# Altium integrated library Linear Technology Power Management Switching Regulator LTC1174-LTC3901.IntLib: 2647 symbols (part 249 of 364)
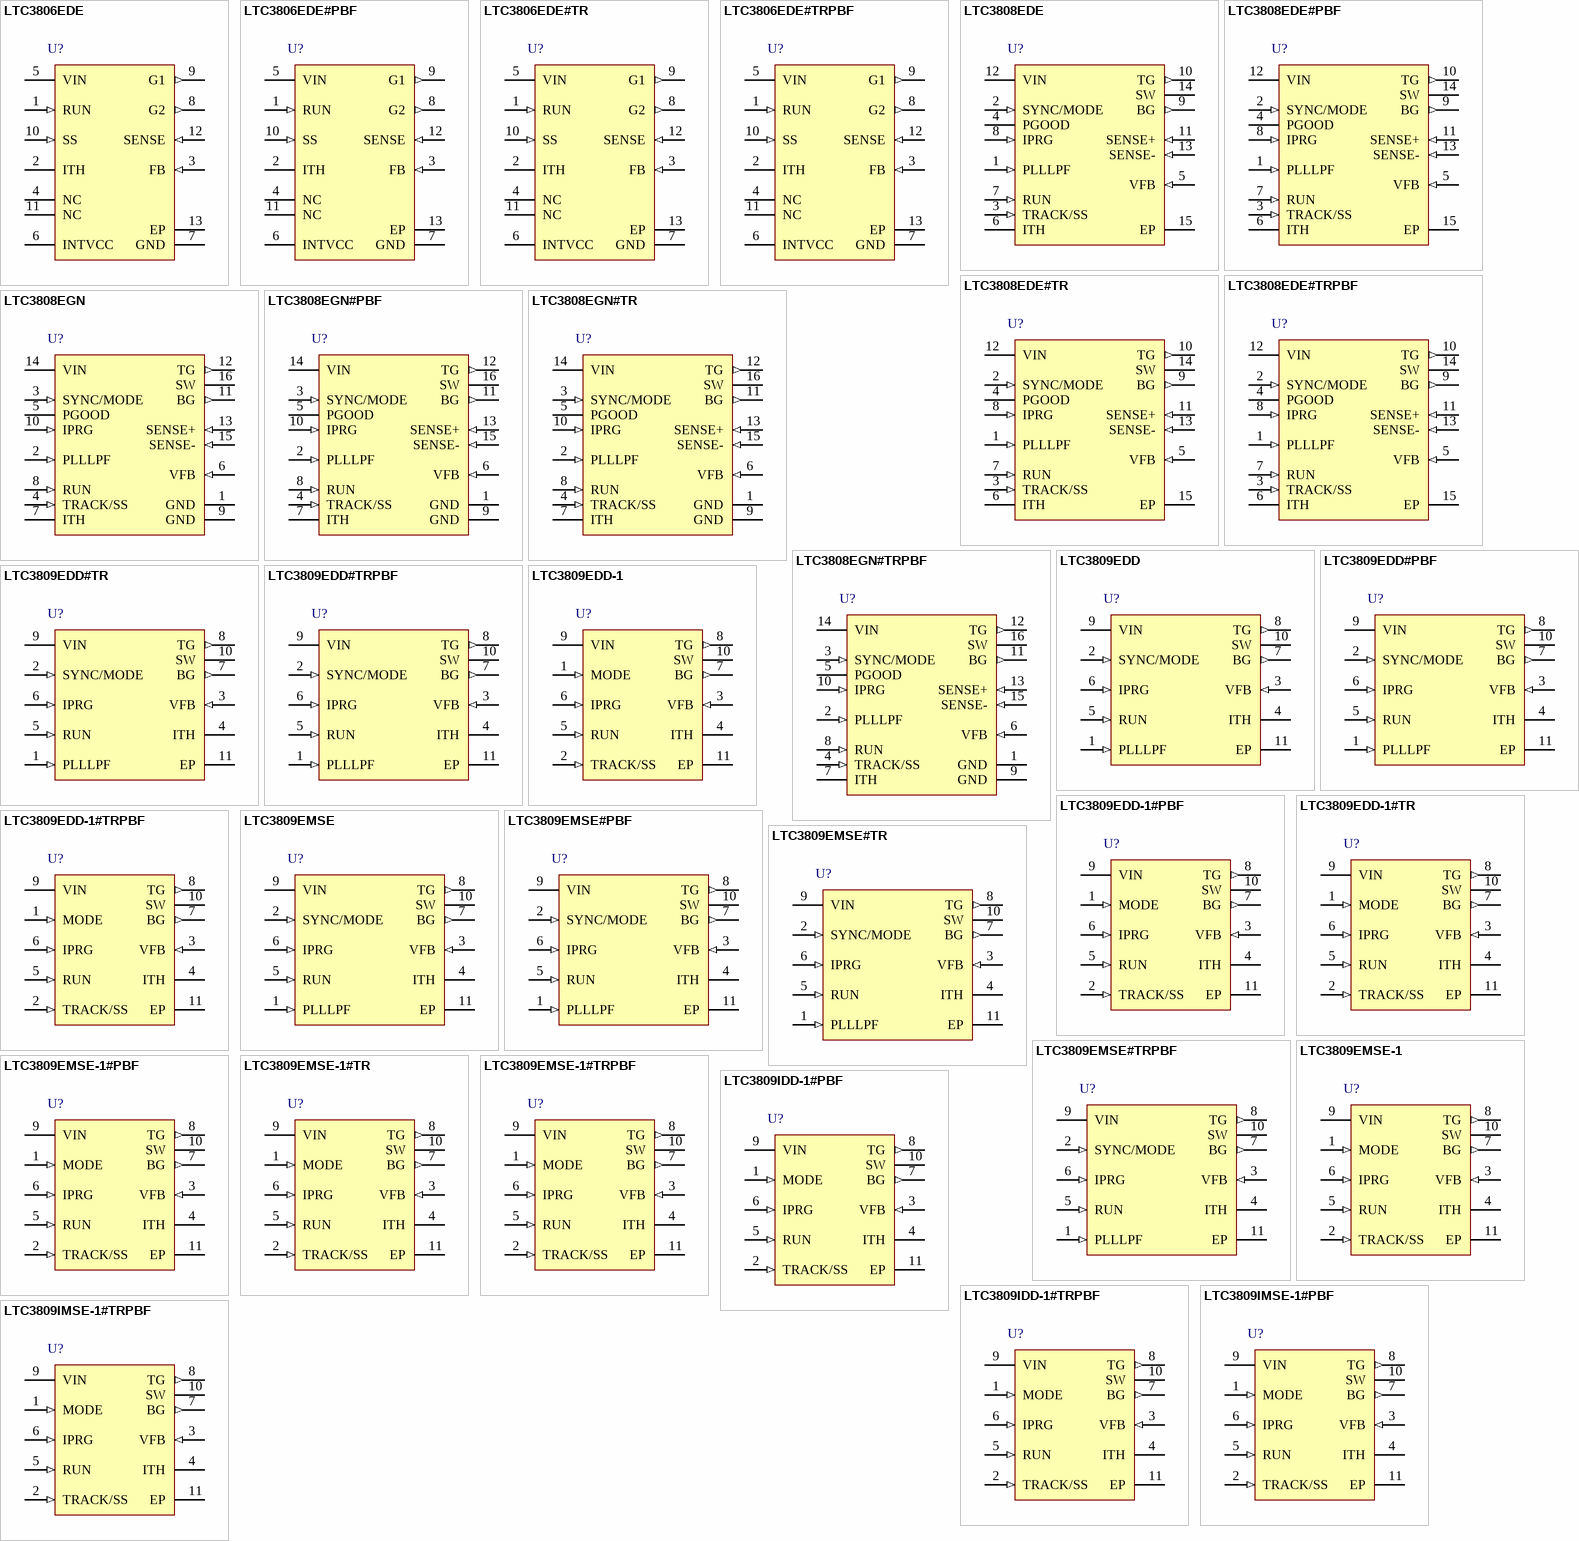
[diagram p343: symbols LTC3806EDE to LTC3809IMSE-1#TRPBF]

## LTC3808EDE
designator U?
No Rsense, Low EMI, Synchronous DC/DC Controller with Output Tracking, 14-pin SON (DE-14), -40 to 85 degC; Manufacturer: Linear Technology; PartNumber: LTC3808EDE; Frequency Sync Range: 250kHz - 750kHz; Number of Outputs: 1; PackageVersion: Rev. B, 06/2010; PackageReference: DE-14; PackageDescription: 14-Pin Plastic DFN, Body 4 x 3 mm, Pitch 0.5 mm; RoHS: FALSE; Mounting Technology: Surface Mount; Code_JEDEC: MO-229; ComponentLink1Description: Manufacturer URL; ComponentLink1URL: http://www.linear.com/; ComponentLink2Description: Datasheet; ComponentLink2URL: http://cds.linear.com/docs/en/datasheet/3808f.pdf; ComponentLink3Description: Package Specification; ComponentLink3URL: http://www.linear.com/docs/en/packaging/DFN_14_05-08-1708.pdf
footprint LT-DE-14_V (SON, 14-Leads, Body 4x3mm, Pitch 0.5mm, Thermal Pad 3.3x1.7mm)
pins: 1 PLLLPF (in) "Frequency Set/PLL Lowpass Filter. When synchronizing to an external clock, this pin serves as the low pass filter point for the phase-locked loop. Normally, a series RC is connected between this pin and ground.", 2 SYNC/MODE (in) "This pin performs four functions: 1) auxiliary winding feedback input, 2) external clock synchronization input for phase-locked loop, 3) Burst Mode, pulse skipping or forced continuous mode select, and 4) enable spread (See Datasheet)", 3 TRACK/SS (in) "Tracking Input for the Controller or Optional External Soft-Start Input. This pin allows the start-up of VOUT to “track” the external voltage at this pin using an external resistor divider. Tying this pin to VIN all(See Datasheet)", 4 PGOOD (oc) "Power Good Output Voltage Monitor Open-Drain Logic Output. This pin is pulled to ground when the voltage on the feedback pin VFB is not within +/-13.3% of its nominal set point.", 5 VFB (in) "Feedback Pin. This pin receives the remotely sensed feedback voltage for the controller from an external resistor divider across the output.", 6 ITH "Current Threshold and Error Amplifier Compensation Point. Nominal operating range on this pin is from 0.7V to 2V. The voltage on this pin determines the threshold of the main current comparator.", 7 RUN (in) "Run Control Input. Forcing this pin below 1.1V shuts down the chip. Driving this pin to VIN or releasing this pin enables the chip to start-up either by tracking the external voltage at the TRACK/SS pin or with the (See Datasheet)", 8 IPRG (in) "Three-State Pin to Select Maximum Peak Sense Voltage Threshold. This pin selects the maximum allowed voltage drop between the SENSE+ and SENSE- or SW pins (i.e., the maximum allowed drop across the sense resistor or the (See Datasheet)", 9 BG (out) "Bottom (NMOS) Gate Drive Output. This pin drives the gate of the external N-channel MOSFET. This pin has an output swing from GND to SENSE+.", 10 TG (out) "Top (PMOS) Gate Drive Output. This pin drives the gate of the external P-channel MOSFET. This pin has an output swing from GND to SENSE+.", 11 SENSE+ (in) "Positive Input to Differential Current Comparator. Also powers the gate drivers. Normally connected to the source of the external P-channel MOSFET when the sense resistor is not used. Otherwise, it is connected to the sense (See Datasheet)", 12 VIN (power) "Chip Signal Power Supply. This pin powers the entire chip except for the gate drivers. Externally filtering this pin with a lowpass RC network (e.g., R = 10ohm, C = 1uF) is suggested to minimize noise pickup, especially in (See Datasheet)", 13 SENSE- (in) "Negative Input to Differential Current Comparator. Normally is connected to the SW pin when the sense resistor is not used. When using a current sense resistor, connect the resistor between SENSE+ and SENSE- and connect the (See Datasheet)", 14 SW "Switch Node Connection to Inductor. This pin is also an input to the reverse current comparator", 15 EP (power) "The exposed pad (Pin 15 in DFN package) must be soldered to the PCB ground."

## LTC3808EDE#PBF
designator U?
No Rsense, Low EMI, Synchronous DC/DC Controller with Output Tracking, 14-pin SON (DE-14), -40 to 85 degC, Pb-Free; Manufacturer: Linear Technology; PartNumber: LTC3808EDE#PBF; Frequency Sync Range: 250kHz - 750kHz; Number of Outputs: 1; PackageVersion: Rev. B, 06/2010; PackageReference: DE-14; PackageDescription: 14-Pin Plastic DFN, Body 4 x 3 mm, Pitch 0.5 mm; Supplier 1: Digi-Key; Supplier Part Number 1: LTC3808EDE#PBF-ND; RoHS: TRUE; Mounting Technology: Surface Mount; Code_JEDEC: MO-229; ComponentLink1Description: Manufacturer URL; ComponentLink1URL: http://www.linear.com/; ComponentLink2Description: Datasheet; ComponentLink2URL: http://cds.linear.com/docs/en/datasheet/3808f.pdf; ComponentLink3Description: Package Specification; ComponentLink3URL: http://www.linear.com/docs/en/packaging/DFN_14_05-08-1708.pdf
footprint LT-DE-14_V (SON, 14-Leads, Body 4x3mm, Pitch 0.5mm, Thermal Pad 3.3x1.7mm)
pins: 1 PLLLPF (in) "Frequency Set/PLL Lowpass Filter. When synchronizing to an external clock, this pin serves as the low pass filter point for the phase-locked loop. Normally, a series RC is connected between this pin and ground.", 2 SYNC/MODE (in) "This pin performs four functions: 1) auxiliary winding feedback input, 2) external clock synchronization input for phase-locked loop, 3) Burst Mode, pulse skipping or forced continuous mode select, and 4) enable spread (See Datasheet)", 3 TRACK/SS (in) "Tracking Input for the Controller or Optional External Soft-Start Input. This pin allows the start-up of VOUT to “track” the external voltage at this pin using an external resistor divider. Tying this pin to VIN all(See Datasheet)", 4 PGOOD (oc) "Power Good Output Voltage Monitor Open-Drain Logic Output. This pin is pulled to ground when the voltage on the feedback pin VFB is not within +/-13.3% of its nominal set point.", 5 VFB (in) "Feedback Pin. This pin receives the remotely sensed feedback voltage for the controller from an external resistor divider across the output.", 6 ITH "Current Threshold and Error Amplifier Compensation Point. Nominal operating range on this pin is from 0.7V to 2V. The voltage on this pin determines the threshold of the main current comparator.", 7 RUN (in) "Run Control Input. Forcing this pin below 1.1V shuts down the chip. Driving this pin to VIN or releasing this pin enables the chip to start-up either by tracking the external voltage at the TRACK/SS pin or with the (See Datasheet)", 8 IPRG (in) "Three-State Pin to Select Maximum Peak Sense Voltage Threshold. This pin selects the maximum allowed voltage drop between the SENSE+ and SENSE- or SW pins (i.e., the maximum allowed drop across the sense resistor or the (See Datasheet)", 9 BG (out) "Bottom (NMOS) Gate Drive Output. This pin drives the gate of the external N-channel MOSFET. This pin has an output swing from GND to SENSE+.", 10 TG (out) "Top (PMOS) Gate Drive Output. This pin drives the gate of the external P-channel MOSFET. This pin has an output swing from GND to SENSE+.", 11 SENSE+ (in) "Positive Input to Differential Current Comparator. Also powers the gate drivers. Normally connected to the source of the external P-channel MOSFET when the sense resistor is not used. Otherwise, it is connected to the sense (See Datasheet)", 12 VIN (power) "Chip Signal Power Supply. This pin powers the entire chip except for the gate drivers. Externally filtering this pin with a lowpass RC network (e.g., R = 10ohm, C = 1uF) is suggested to minimize noise pickup, especially in (See Datasheet)", 13 SENSE- (in) "Negative Input to Differential Current Comparator. Normally is connected to the SW pin when the sense resistor is not used. When using a current sense resistor, connect the resistor between SENSE+ and SENSE- and connect the (See Datasheet)", 14 SW "Switch Node Connection to Inductor. This pin is also an input to the reverse current comparator", 15 EP (power) "The exposed pad (Pin 15 in DFN package) must be soldered to the PCB ground."

## LTC3808EDE#TR
designator U?
No Rsense, Low EMI, Synchronous DC/DC Controller with Output Tracking, 14-pin SON (DE-14), -40 to 85 degC, Tape and Reel; Manufacturer: Linear Technology; PartNumber: LTC3808EDE#TR; Frequency Sync Range: 250kHz - 750kHz; Number of Outputs: 1; PackageVersion: Rev. B, 06/2010; PackageReference: DE-14; PackageDescription: 14-Pin Plastic DFN, Body 4 x 3 mm, Pitch 0.5 mm; Packing: Tape and Reel; RoHS: FALSE; Mounting Technology: Surface Mount; Code_JEDEC: MO-229; ComponentLink1Description: Manufacturer URL; ComponentLink1URL: http://www.linear.com/; ComponentLink2Description: Datasheet; ComponentLink2URL: http://cds.linear.com/docs/en/datasheet/3808f.pdf; ComponentLink3Description: Package Specification; ComponentLink3URL: http://www.linear.com/docs/en/packaging/DFN_14_05-08-1708.pdf
footprint LT-DE-14_V (SON, 14-Leads, Body 4x3mm, Pitch 0.5mm, Thermal Pad 3.3x1.7mm)
pins: 1 PLLLPF (in) "Frequency Set/PLL Lowpass Filter. When synchronizing to an external clock, this pin serves as the low pass filter point for the phase-locked loop. Normally, a series RC is connected between this pin and ground.", 2 SYNC/MODE (in) "This pin performs four functions: 1) auxiliary winding feedback input, 2) external clock synchronization input for phase-locked loop, 3) Burst Mode, pulse skipping or forced continuous mode select, and 4) enable spread (See Datasheet)", 3 TRACK/SS (in) "Tracking Input for the Controller or Optional External Soft-Start Input. This pin allows the start-up of VOUT to “track” the external voltage at this pin using an external resistor divider. Tying this pin to VIN all(See Datasheet)", 4 PGOOD (oc) "Power Good Output Voltage Monitor Open-Drain Logic Output. This pin is pulled to ground when the voltage on the feedback pin VFB is not within +/-13.3% of its nominal set point.", 5 VFB (in) "Feedback Pin. This pin receives the remotely sensed feedback voltage for the controller from an external resistor divider across the output.", 6 ITH "Current Threshold and Error Amplifier Compensation Point. Nominal operating range on this pin is from 0.7V to 2V. The voltage on this pin determines the threshold of the main current comparator.", 7 RUN (in) "Run Control Input. Forcing this pin below 1.1V shuts down the chip. Driving this pin to VIN or releasing this pin enables the chip to start-up either by tracking the external voltage at the TRACK/SS pin or with the (See Datasheet)", 8 IPRG (in) "Three-State Pin to Select Maximum Peak Sense Voltage Threshold. This pin selects the maximum allowed voltage drop between the SENSE+ and SENSE- or SW pins (i.e., the maximum allowed drop across the sense resistor or the (See Datasheet)", 9 BG (out) "Bottom (NMOS) Gate Drive Output. This pin drives the gate of the external N-channel MOSFET. This pin has an output swing from GND to SENSE+.", 10 TG (out) "Top (PMOS) Gate Drive Output. This pin drives the gate of the external P-channel MOSFET. This pin has an output swing from GND to SENSE+.", 11 SENSE+ (in) "Positive Input to Differential Current Comparator. Also powers the gate drivers. Normally connected to the source of the external P-channel MOSFET when the sense resistor is not used. Otherwise, it is connected to the sense (See Datasheet)", 12 VIN (power) "Chip Signal Power Supply. This pin powers the entire chip except for the gate drivers. Externally filtering this pin with a lowpass RC network (e.g., R = 10ohm, C = 1uF) is suggested to minimize noise pickup, especially in (See Datasheet)", 13 SENSE- (in) "Negative Input to Differential Current Comparator. Normally is connected to the SW pin when the sense resistor is not used. When using a current sense resistor, connect the resistor between SENSE+ and SENSE- and connect the (See Datasheet)", 14 SW "Switch Node Connection to Inductor. This pin is also an input to the reverse current comparator", 15 EP (power) "The exposed pad (Pin 15 in DFN package) must be soldered to the PCB ground."